# Altium footprint library LCD-TS19264A-1.PcbLib: 1 footprints
Each footprint in its own frame and in the unit in brackets; x right, y up, seen from the top. Pads: shape width x height; smd on the part's side, far side on the other; paste and mask are expansions set on the pad; w line width, h text height; cw(c..) or ccw(c..) is an arc to the next point about the centre after c.
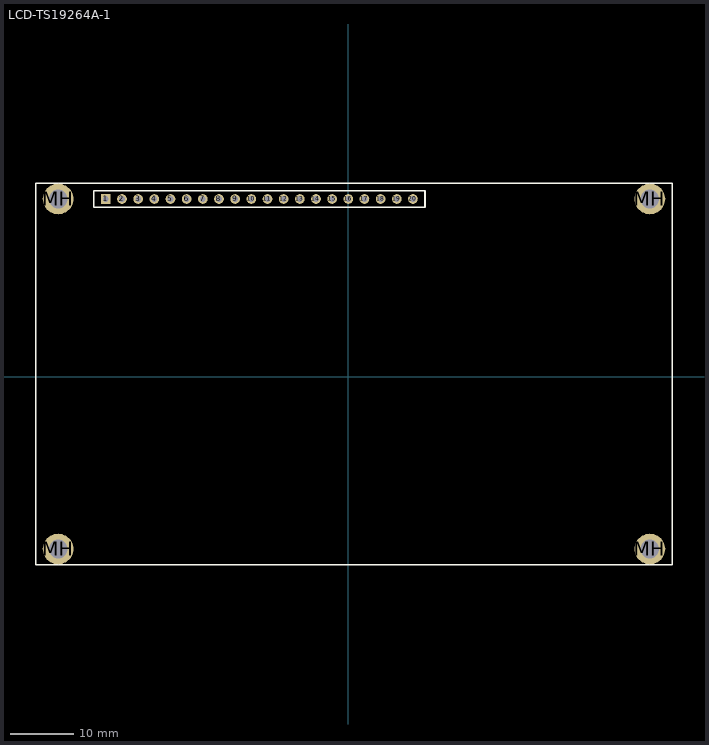
[diagram p0: the footprint, top view; thin cyan lines are the x and y axes]

## LCD-TS19264A-1 [mil] "LCD-TS19264A-1"
pads (24):
  rect 60x60 hole 35: 1(-1500,1100)
  round 60 hole 35: 2(-1400,1100) 3(-1300,1100) 4(-1200,1100) 5(-1100,1100) 6(-1000,1100) 7(-900,1100) 8(-800,1100) 9(-700,1100) 10(-600,1100) 11(-500,1100) 12(-400,1100) 13(-300,1100) 14(-200,1100) 15(-100,1100) 16(0,1100) 17(100,1100) 18(200,1100) 19(300,1100) 20(400,1100)
  round 190 hole 115: MH(-1795.28,-1065.35) MH(-1795.28,1100) MH(1866.14,-1065.35) MH(1866.14,1100)
Top Overlay:
  lines w10: 2003.94,1198.42 2003.94,-1163.78 -1933.07,-1163.78 -1933.07,1198.43 2003.94,1198.43 ; -1575,1050 -1575,1150 475,1150 475,1050 -1575,1050